# EAGLE library part LTC6702 (library IC)
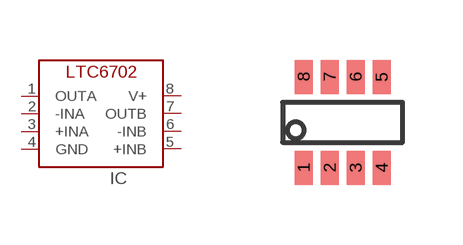
[diagram p201: symbol with the pads of SOT23-8; footprint SOT23-8]

Designator prefix IC

## LTC6702  [SOT23-8]
1  OUTA
2  -INA
3  +INA
4  GND
5  +INB
6  -INB
7  OUTB
8  V+

## Footprint SOT23-8 (pad centres in mm)
smd 0.45 x 0.85: 1 -0.975,-1.137; 2 -0.325,-1.137; 3 0.325,-1.137; 4 0.975,-1.137; 5 0.975,1.137; 6 0.325,1.137; 7 -0.325,1.137; 8 -0.975,1.137